# EAGLE library part 750315526 (library WE-OLTI)
WE-OLTI Offline Flyback Transformers Characteristics Nominal input voltage: 85–265 VAC (120–375 VDC) Small size Low leakage inductance Multiple-output options Operating temperature: −40 °C to +125 °C Isolation Voltage: 2 kVAC to 5 kVAC Options for fixed frequency or quasi-resonant mode operation Most products meet reinforced insulation Applications Industrial controls USB chargers Utility metering devices Process controls Factory automation Security systems Garage door opener auxiliary supplies Home appliances Especially designed for several ICs from Texas Instruments <https://www.we-online.com/components/media/o814034v209%20UtOLTI%20Group%20CGI.jpg> Details see: www.we-online.com/en/components/products/WE-OLTI <www.we-online.com/catalog/WE-OLTI/?utm_source=eagle_model&utm_medium=description_link&utm_campaign=eisos_eagle> Created by Ella Wu 2025-02-06 2025 (C) Wurth Elektronik
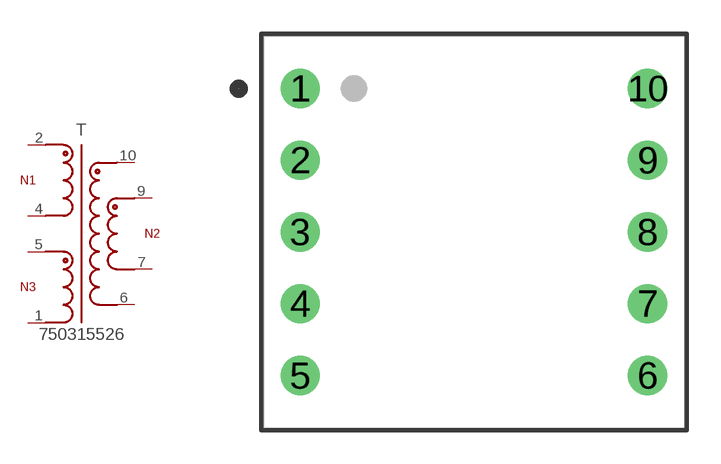
[diagram p13: symbol with the pads of WE-OLTI_EE16/7/5_L18.8W17.5H14.2; footprint WE-OLTI_EE16/7/5_L18.8W17.5H14.2]

Designator prefix T

## 750315526 (DATASHEET-URL: https://www.we-online.com/redexpert/spec/750315526?ae; FSWITCH: 100kHz; HEIGHT: 13.8mm; IOUT1: 2000mA; ISAT: 1.25A; L: 435uH; LENGTH: 17.5mm; MOUNT: THT; N: 13.2:1:3.8; PART-NUMBER: 750315526; SIZE: EE16/7/5; VALUE: 435uH; VAUX: 20V; VIN: 85 - 265 V (AC); VOUT1: 5V; VT: 3900V(AC); WIDTH: 18.8mm)  [WE-OLTI_EE16/7/5_L18.8W17.5H14.2]
1  1  pas
2  2  pas
4  4  pas
5  5  pas
6  6  pas
7  7  pas
9  9  pas
10  10  pas

## Footprint WE-OLTI_EE16/7/5_L18.8W17.5H14.2 (pad centres in mm)
WE-OLTI Offline Flyback Transformers Size: EE16/7/5,THT,10pins LXWXH=18.8X17.5X14.2mm Bobbin: 070-5472
drill 1.17: 1 -7.75,6.4; 2 -7.75,3.2; 3 -7.75,0; 4 -7.75,-3.2; 5 -7.75,-6.4; 6 7.75,-6.4; 7 7.75,-3.2; 8 7.75,0; 9 7.75,3.2; 10 7.75,6.4